# Altium schematic symbol library MCP2562-E_SN.SchLib: 1 symbol
Pins are listed as number, name and electrical type; pins without a type are passive.

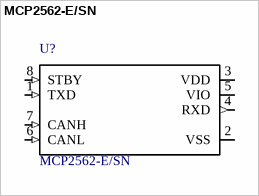
[diagram p0: symbol MCP2562-E/SN]

## MCP2562-E/SN
designator U?
Microchip MCP2562-E/SN, CAN Transceiver 1MBps 1-channel IEC 61000-4-2, 8-Pin SOIC; Price: None; MF: Microchip; SnapEDA_Link: https://www.snapeda.com/parts/MCP2562-E/SN/Microchip/view-part/?ref=snap; MP: MCP2562-E/SN; Availability: Unavailable; Package: SO-8 Microchip; Value: *
footprint SOIC127P600X175-8N
pins: 1 TXD (in), 2 VSS (power), 3 VDD (power), 4 RXD (out), 5 VIO (power), 6 CANL (in), 7 CANH (in), 8 STBY (in)